# Altium footprint library QUTMS_LEDLibrary.PcbLib: 9 footprints
Each footprint in its own frame and in the unit in brackets; x right, y up, seen from the top. Pads: shape width x height; smd on the part's side, far side on the other; paste and mask are expansions set on the pad; w line width, h text height; cw(c..) or ccw(c..) is an arc to the next point about the centre after c.
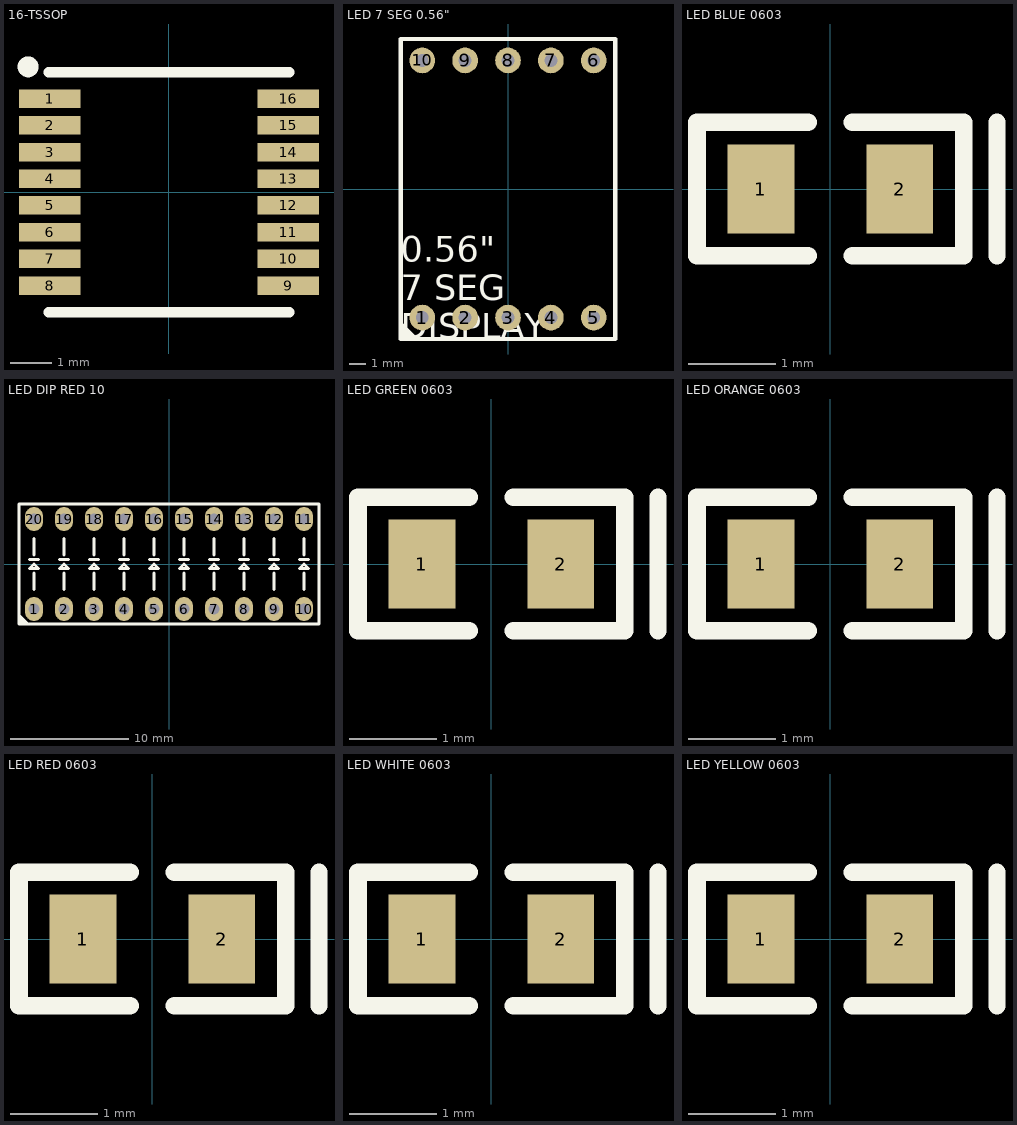
[diagram p0: the footprints below, top view; thin cyan lines are the x and y axes]

## 16-TSSOP [mm]
pads (16):
  rect 1.5x0.45 smd: 1(-2.9,2.275) 2(-2.9,1.625) 3(-2.9,0.975) 4(-2.9,0.325) 5(-2.9,-0.325) 6(-2.9,-0.975) 7(-2.9,-1.625) 8(-2.9,-2.275) 9(2.9,-2.275) 10(2.9,-1.625) 11(2.9,-0.975) 12(2.9,-0.325) 13(2.9,0.325) 14(2.9,0.975) 15(2.9,1.625) 16(2.9,2.275)
Top Overlay:
  circle w0.254: c-3.429,3.048 r0.127
  lines w0.254: -2.921,-2.921 2.921,-2.921 ; -2.921,2.921 2.921,2.921
3D body "TSSOP-16.stp": height 1.11, standoff 0.01, extent -3.215,-2.549 3.216,2.549

## LED 7 SEG 0.56" [mil]
pads (10):
  round 60 hole 30: 1(-200,-300) 2(-100,-300) 3(0,-300) 4(100,-300) 5(200,-300) 6(200,300) 7(100,300) 8(0,300) 9(-100,300) 10(-200,300)
Top Overlay:
  lines w10: -250,-335 -235,-350 ; -250,-320 -250,-325 -225,-350 ; -250,-300 -250,-315 -215,-350 ; -250,-350 -250,350 250,350 250,-350 -250,-350
  text "0.56\" / 7 SEG / DISPLAY" at -250,-350 h60
3D body "7-Segment Display (Standard 0.5 inch).step": height 279.56, standoff -76.74, extent -244.09,-344.49 244.1,344.49

## LED BLUE 0603 [mil]
pads (2):
  rect 30x40 smd: 1(-31.24,0) 2(31.24,0)
Top Overlay:
  lines w7.87: 75,-30 75,30
  lines w8: -10,-30 -60,-30 -60,30 -10,30 ; 10,-30 60,-30 60,30 10,30
3D body: height 30, standoff 1, extent -30,-17.5 30,17.5
3D body: height 7, standoff 0, extent -40,-20 40,20

## LED DIP RED 10 [mil]
pads (20):
  oval 60x80 hole 37: 1(-450,-150) 2(-350,-150) 3(-250,-150) 4(-150,-150) 5(-50,-150) 6(50,-150) 7(150,-150) 8(250,-150) 9(350,-150) 10(450,-150) 11(450,150) 12(350,150) 13(250,150) 14(150,150) 15(50,150) 16(-50,150) 17(-150,150) 18(-250,150) 19(-350,150) 20(-450,150)
Top Overlay:
  lines w10: -500,-190 -490,-200 ; -500,-180 -480,-200 ; -500,-170 -470,-200 -465,-200 ; -465,15 -435,15 ; -450,-85 -450,-30 ; -450,30 -450,85 ; -365,15 -335,15 ; -350,-85 -350,-30 ; -350,30 -350,85 ; -265,15 -235,15 ; -250,-85 -250,-30 ; -250,30 -250,85 ; -165,15 -135,15 ; -150,-85 -150,-30 ; -150,30 -150,85 ; -65,15 -35,15 ; -50,-85 -50,-30 ; -50,30 -50,85 ; 35,15 65,15 ; 50,-85 50,-30 ; 50,30 50,85 ; 135,15 165,15 ; 150,-85 150,-30 ; 150,30 150,85 ; 235,15 265,15 ; 250,-85 250,-30 ; 250,30 250,85 ; 335,15 365,15 ; 350,-85 350,-30 ; 350,30 350,85 ; 435,15 465,15 ; 450,-85 450,-30 ; 450,30 450,85 ; -500,-200 -500,200 500,200 500,-200 -500,-200 ; -465,-15 -450,0 -435,-15 -465,-15 ; -365,-15 -350,0 -335,-15 -365,-15 ; -265,-15 -250,0 -235,-15 -265,-15 ; -165,-15 -150,0 -135,-15 -165,-15 ; -65,-15 -50,0 -35,-15 -65,-15 ; 35,-15 50,0 65,-15 35,-15 ; 135,-15 150,0 165,-15 135,-15 ; 235,-15 250,0 265,-15 235,-15 ; 335,-15 350,0 365,-15 335,-15 ; 435,-15 450,0 465,-15 435,-15
3D body "DC-10.STEP": height 320, standoff -152.44, extent -500,-200 500,200

## LED GREEN 0603 [mil]
pads (2):
  rect 30x40 smd: 1(-31.24,0) 2(31.24,0)
Top Overlay:
  lines w7.87: 75,-30 75,30
  lines w8: -10,-30 -60,-30 -60,30 -10,30 ; 10,-30 60,-30 60,30 10,30
3D body: height 30, standoff 1, extent -30,-17.5 30,17.5
3D body: height 7, standoff 0, extent -40,-20 40,20

## LED ORANGE 0603 [mil]
pads (2):
  rect 30x40 smd: 1(-31.24,0) 2(31.24,0)
Top Overlay:
  lines w7.87: 75,-30 75,30
  lines w8: -10,-30 -60,-30 -60,30 -10,30 ; 10,-30 60,-30 60,30 10,30
3D body: height 30, standoff 1, extent -30,-17.5 30,17.5
3D body: height 7, standoff 0, extent -40,-20 40,20

## LED RED 0603 [mil]
pads (2):
  rect 30x40 smd: 1(-31.24,0) 2(31.24,0)
Top Overlay:
  lines w7.87: 75,-30 75,30
  lines w8: -10,-30 -60,-30 -60,30 -10,30 ; 10,-30 60,-30 60,30 10,30
3D body: height 30, standoff 1, extent -30,-17.5 30,17.5
3D body: height 7, standoff 0, extent -40,-20 40,20

## LED WHITE 0603 [mil]
pads (2):
  rect 30x40 smd: 1(-31.24,0) 2(31.24,0)
Top Overlay:
  lines w7.87: 75,-30 75,30
  lines w8: -10,-30 -60,-30 -60,30 -10,30 ; 10,-30 60,-30 60,30 10,30
3D body: height 30, standoff 1, extent -30,-17.5 30,17.5
3D body: height 7, standoff 0, extent -40,-20 40,20

## LED YELLOW 0603 [mil]
pads (2):
  rect 30x40 smd: 1(-31.24,0) 2(31.24,0)
Top Overlay:
  lines w7.87: 75,-30 75,30
  lines w8: -10,-30 -60,-30 -60,30 -10,30 ; 10,-30 60,-30 60,30 10,30
3D body: height 7, standoff 0, extent -40,-20 40,20
3D body: height 30, standoff 1, extent -30,-17.5 30,17.5